# Altium schematic symbol library PCA9685.SchLib: 2 symbols
Pins are listed as number, name and electrical type; pins without a type are passive.

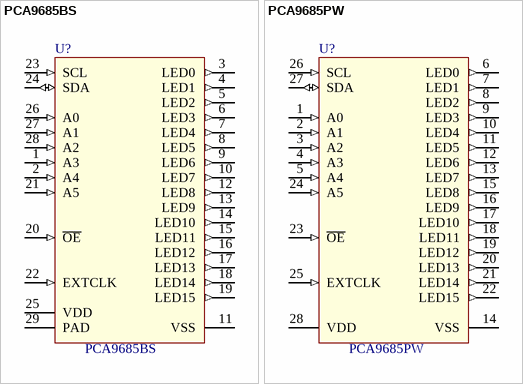
[diagram p0: symbols PCA9685BS to PCA9685PW]

## PCA9685BS
designator U?
16-channel, 12-bit PWM Fm+ I2C-bus LED controller; value: PCA9685BS
footprint HVQFN-28-6x6 (HVQFN28, 28-Leads, Body 6,00x6,00mm, Pitch 0,65mm, Thermal Pad 4,00x4,00mm, IPC Medium Density)
pins: 1 A3 (in), 2 A4 (in), 3 LED0 (out), 4 LED1 (out), 5 LED2 (out), 6 LED3 (out), 7 LED4 (out), 8 LED5 (out), 9 LED6 (out), 10 LED7 (out), 11 VSS (power), 12 LED8 (out), 13 LED9 (out), 14 LED10 (out), 15 LED11 (out), 16 LED12 (out), 17 LED13 (out), 18 LED14 (out), 19 LED15 (out), 20 ~{OE} (in), 21 A5 (in), 22 EXTCLK (in), 23 SCL (in), 24 SDA (io), 25 VDD (power), 26 A0 (in), 27 A1 (in), 28 A2 (in), 29 PAD (power)

## PCA9685PW
designator U?
16-channel, 12-bit PWM Fm+ I2C-bus LED controller; value: PCA9685PW
footprint TSSOP-28 (Shrink Small Outline; 28 Leads; Body Width 4.4 mm; Pitch 0.65 mm)
pins: 1 A0 (in), 2 A1 (in), 3 A2 (in), 4 A3 (in), 5 A4 (in), 6 LED0 (out), 7 LED1 (out), 8 LED2 (out), 9 LED3 (out), 10 LED4 (out), 11 LED5 (out), 12 LED6 (out), 13 LED7 (out), 14 VSS (power), 15 LED8 (out), 16 LED9 (out), 17 LED10 (out), 18 LED11 (out), 19 LED12 (out), 20 LED13 (out), 21 LED14 (out), 22 LED15 (out), 23 ~{OE} (in), 24 A5 (in), 25 EXTCLK (in), 26 SCL (in), 27 SDA (io), 28 VDD (power)